# Altium schematic symbol library NXP_UART_Interfaces.SchLib: 2 symbols
Pins are listed as number, name and electrical type; pins without a type are passive.

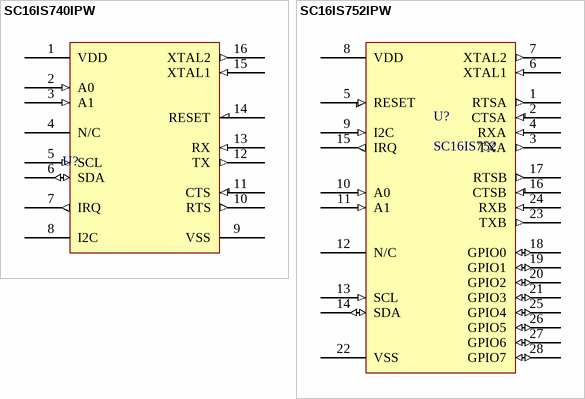
[diagram p0: symbols SC16IS740IPW to SC16IS752IPW]

## SC16IS740IPW
designator U?, comment SC16IS740  (value not drawn)
I2C to UART Interface (1 Channel); Datasheet: http://au.element14.com/nxp/sc16is740ipw-112/single-uart-fifo-5mbps-3-6v-tssop/dp/1831258#techDocsHook
pins: 1 VDD, 2 A0 (in), 3 A1 (in), 4 N/C, 5 SCL (in), 6 SDA (io), 7 IRQ (out), 8 I2C, 9 VSS (power), 10 RTS (out), 11 CTS (in), 12 TX (out), 13 RX (in), 14 RESET, 15 XTAL1 (in), 16 XTAL2 (out)

## SC16IS752IPW
designator U?, comment SC16IS752
I2C to UART Interface (2 Channels); Datasheet: http://au.element14.com/nxp/sc16is752ipw-112/dual-uart-fifo-5mbps-3-6v-tssop28/dp/1831259
pins: 1 RTSA (out), 2 CTSA (in), 3 TXA (out), 4 RXA (in), 5 RESET (in), 6 XTAL1 (in), 7 XTAL2 (out), 8 VDD, 9 I2C (in), 10 A0 (in), 11 A1 (in), 12 N/C, 13 SCL (in), 14 SDA (io), 15 IRQ (out), 16 CTSB (in), 17 RTSB (out), 18 GPIO0 (io), 19 GPIO1 (io), 20 GPIO2 (io), 21 GPIO3 (io), 22 VSS (power), 23 TXB (out), 24 RXB (in), 25 GPIO4 (io), 26 GPIO5 (io), 27 GPIO6 (io), 28 GPIO7 (io)